# Altium footprint library 10142708-04200LF.PcbLib: 1 footprints
Each footprint in its own frame and in the unit in brackets; x right, y up, seen from the top. Pads: shape width x height; smd on the part's side, far side on the other; paste and mask are expansions set on the pad; w line width, h text height; cw(c..) or ccw(c..) is an arc to the next point about the centre after c.
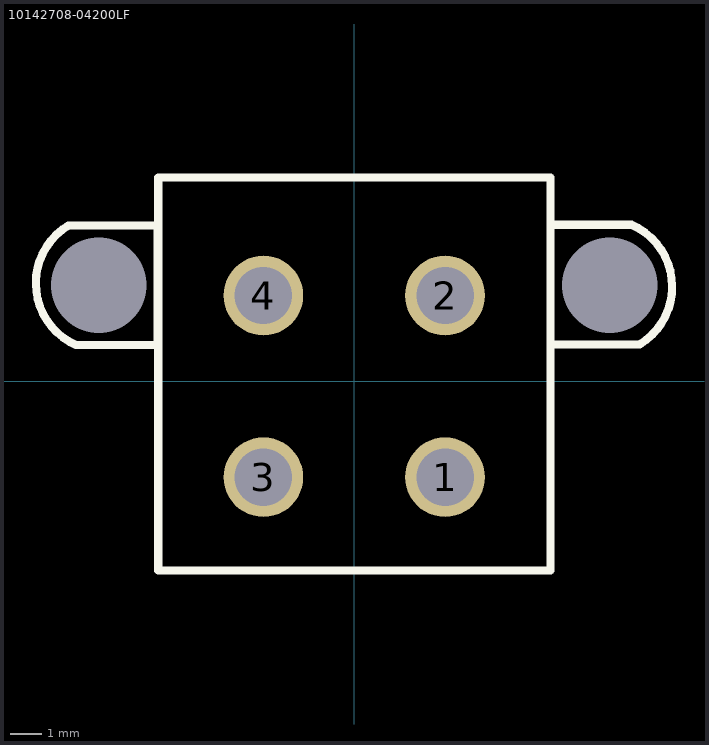
[diagram p0: the footprint, top view; thin cyan lines are the x and y axes]

## 10142708-04200LF [mm]
pads (6):
  round 2.5 hole 1.8: 1(2.85,-3.012) 2(2.85,2.688) 3(-2.85,-3.012) 4(-2.85,2.688)
  round 0 hole 3: ""(-8.02,3.013) ""(8.02,3.013)
Top Overlay:
  lines w0.254: 6.152,1.202 6.152,-5.933 -6.15,-5.933 -6.15,6.386 6.152,6.386 6.152,4.91 ; 6.152,4.91 8.699,4.91 cw(c7.859,2.967) 8.947,1.151 6.152,1.151 6.152,4.91 ; -8.962,4.889 ccw(c-7.874,3.073) -8.714,1.13 -6.167,1.13 -6.167,4.889 -8.962,4.889